# Altium schematic symbol library LP6OA1ASRY.SchLib: 1 symbol
Pins are listed as number, name and electrical type; pins without a type are passive.

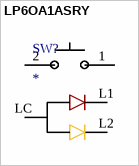
[diagram p0: symbol LP6OA1ASRY]

## LP6OA1ASRY
designator SW?
LP6 Series Illuminated Pushbutton Switch Momentary SPST Red/Yellow; Manufacturer_Part_Number: LP6OA1ASRY
footprint LP6
pins: 1, 2, L1 red, L2 yellow, LC red